# EAGLE library part HEADER-10POS (library quadparts_prebuilt_2022)
10 pin single inline pin header, socket, or connector
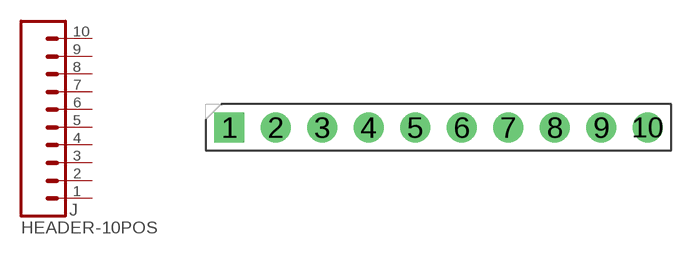
[diagram p3: symbol with the pads of HDRV10W63P254_10X1_2540X254H838_HS; footprint HDRV10W63P254_10X1_2540X254H838_HS]

Designator prefix J

## HEADER-10POSTH-254X10-1 (CREATOR: Swanson; DIST: Digikey; DISTPN: 609-3250-ND; MFR: Amphenol FCI; MOUNTING: TH; MPN: 68000-110HLF; REVIEWER: Swanson)  [HDRV10W63P254_10X1_2540X254H838_HS]
1  1  pas
2  2  pas
3  3  pas
4  4  pas
5  5  pas
6  6  pas
7  7  pas
8  8  pas
9  9  pas
10  10  pas

## HEADER-10POSTH-254X10 (CREATOR: Swanson; DATASHEET: http://portal.fciconnect.com/Comergent//fci/drawing/68000.pdf; DIST: Digikey; DISTPN: 609-3250-ND; MFR: Amphenol FCI; MOUNTING: TH; MPN: 68000-110HLF; PRICE: 0.55; REVIEWER: Swanson)  [HDRV10W63P254_10X1_2540X254H838_HS]
Pads as for HDRV10W63P254_10X1_2540X254H838_HS

## Footprint HDRV10W63P254_10X1_2540X254H838_HS (pad centres in mm)
Header, Vertical, 2.54 mm pitch; 0.635 mm lead width, 10 pins, 1 row, 10 pins per row, 25.40 mm L X 2.54 mm W X 8.38 mm H body PCB Libraries Packages
drill 1.1 pad 1.65 square: 1 0,0
drill 1.1 pad 1.65: 2 2.54,0; 3 5.08,0; 4 7.62,0; 5 10.16,0; 6 12.7,0; 7 15.24,0; 8 17.78,0; 9 20.32,0; 10 22.86,0